# Altium footprint library PCB - DIODES - ST DO214AC SMA.PCBLIB: 1 footprints
Each footprint in its own frame and in the unit in brackets; x right, y up, seen from the top. Pads: shape width x height; smd on the part's side, far side on the other; paste and mask are expansions set on the pad; w line width, h text height; cw(c..) or ccw(c..) is an arc to the next point about the centre after c.
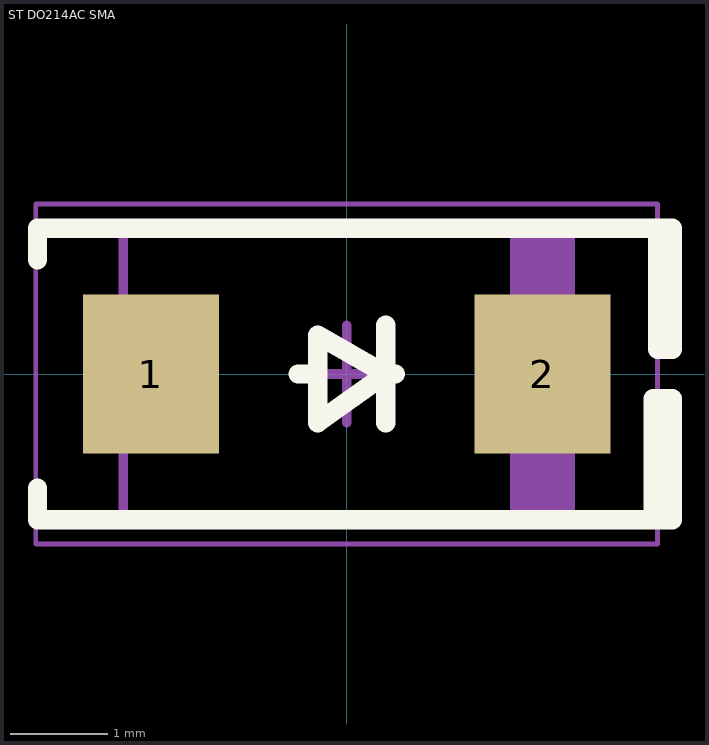
[diagram p0: the footprint, top view; thin cyan lines are the x and y axes]

## ST DO214AC SMA [mm] "Molded Diode, 2-Leads, Body 4.30x2.60mm, IPC Medium Density"
height 2.4
pads (2):
  rect 1.4x1.64 smd: 1(-2.015,0) 2(2.015,0)
Top Overlay:
  lines w0.2: -3.183,-1.175 -3.183,-1.5 3.35,-1.5 3.35,-0.254 3.156,-0.254 3.156,-1.5 ; -3.183,1.175 -3.183,1.5 3.35,1.5 3.35,0.254 3.2,0.254 3.2,1.5 ; -0.5,0 -0.3,0 ; 0.4,-0.5 0.4,0.5 ; 0.5,0 0.4,0 ; 0.4,0 -0.3,-0.5 -0.3,0.4 0.4,0
Mechanical 13:
  rectangle: 1.681,-1.46 2.3,1.46
  lines w0.1: -2.3,-1.46 -2.3,1.46 2.3,1.46 2.3,-1.46 -2.3,-1.46
Mechanical 15:
  lines w0.05: -3.2,-1.75 -3.2,1.75 3.2,1.75 3.2,-1.75 -3.2,-1.75
2:
  lines w0.1: -0.5,0 0.5,0 ; 0,-0.5 0,0.5
3D body "SMA.STEP": height 2.4, standoff 0, extent -2.6,-1.375 2.6,1.375